# Altium footprint library CR2512AJW-103ELF.PCBLIB: 1 footprints
Each footprint in its own frame and in the unit in brackets; x right, y up, seen from the top. Pads: shape width x height; smd on the part's side, far side on the other; paste and mask are expansions set on the pad; w line width, h text height; cw(c..) or ccw(c..) is an arc to the next point about the centre after c.
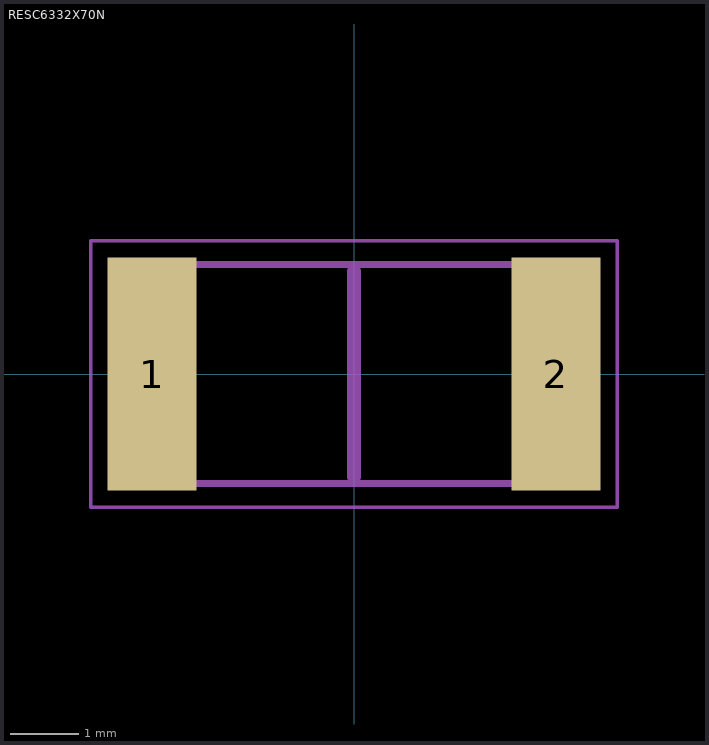
[diagram p0: the footprint, top view; thin cyan lines are the x and y axes]

## RESC6332X70N [mm]
pads (2):
  rect 1.3x3.4 smd: 1(-2.95,0) 2(2.95,0)
Assembly Top:
  lines w0.05: -3.85,-1.95 3.85,-1.95 3.85,1.95 -3.85,1.95 -3.85,-1.95
  lines w0.1: -3.15,-1.6 3.15,-1.6 3.15,1.6 -3.15,1.6 -3.15,-1.6
Mechanical 22:
  lines w0.2: 0,-1.5 0,1.5